# Altium integrated library Fiducial.IntLib: 1 symbol
Pins are listed as number, name and electrical type; pins without a type are passive.

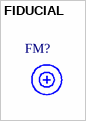
[diagram p0: symbol FIDUCIAL]

## FIDUCIAL
designator FM?
Fiducial, dot
footprint FIDUCIAL_10_20
footprint FIDUCIAL_15_30